# Altium footprint library KF301.PcbLib: 1 footprints
Each footprint in its own frame and in the unit in brackets; x right, y up, seen from the top. Pads: shape width x height; smd on the part's side, far side on the other; paste and mask are expansions set on the pad; w line width, h text height; cw(c..) or ccw(c..) is an arc to the next point about the centre after c.
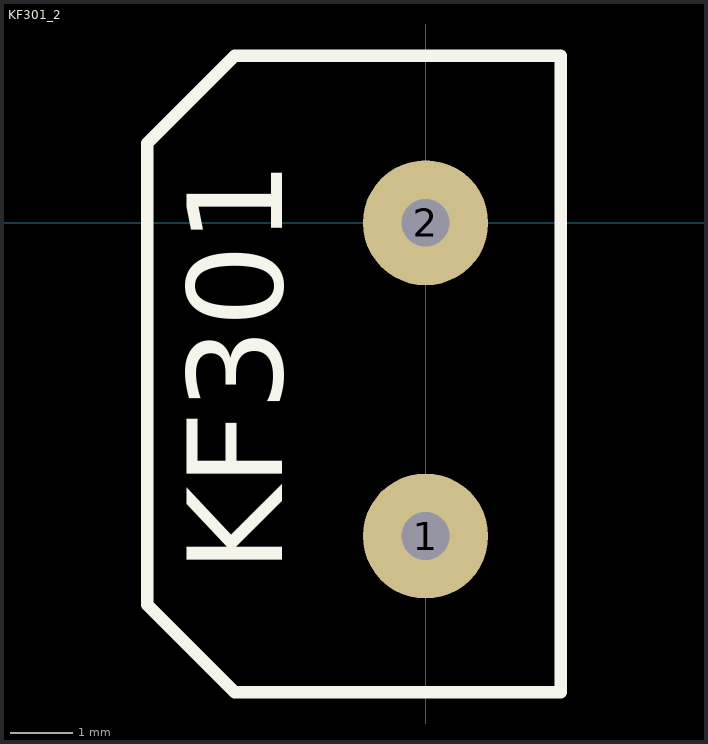
[diagram p0: the footprint, top view; thin cyan lines are the x and y axes]

## KF301_2 [mm]
pads (2):
  round 2 hole 0.762: 1(0,-5) 2(0,0)
Top Overlay:
  lines w0.2: 1.397,-7.493 2.159,-7.493 2.159,2.667 1.524,2.667 -3.048,2.667 -4.445,1.27 -4.445,0 -4.445,-5.842 -4.445,-6.096 -3.048,-7.493 -2.794,-7.493 1.524,-7.493
  text "KF301" at -2.286,-5.588 h1.52